# Altium footprint library PcbLib1.PcbLib: 15 footprints
Each footprint in its own frame and in the unit in brackets; x right, y up, seen from the top. Pads: shape width x height; smd on the part's side, far side on the other; paste and mask are expansions set on the pad; w line width, h text height; cw(c..) or ccw(c..) is an arc to the next point about the centre after c.
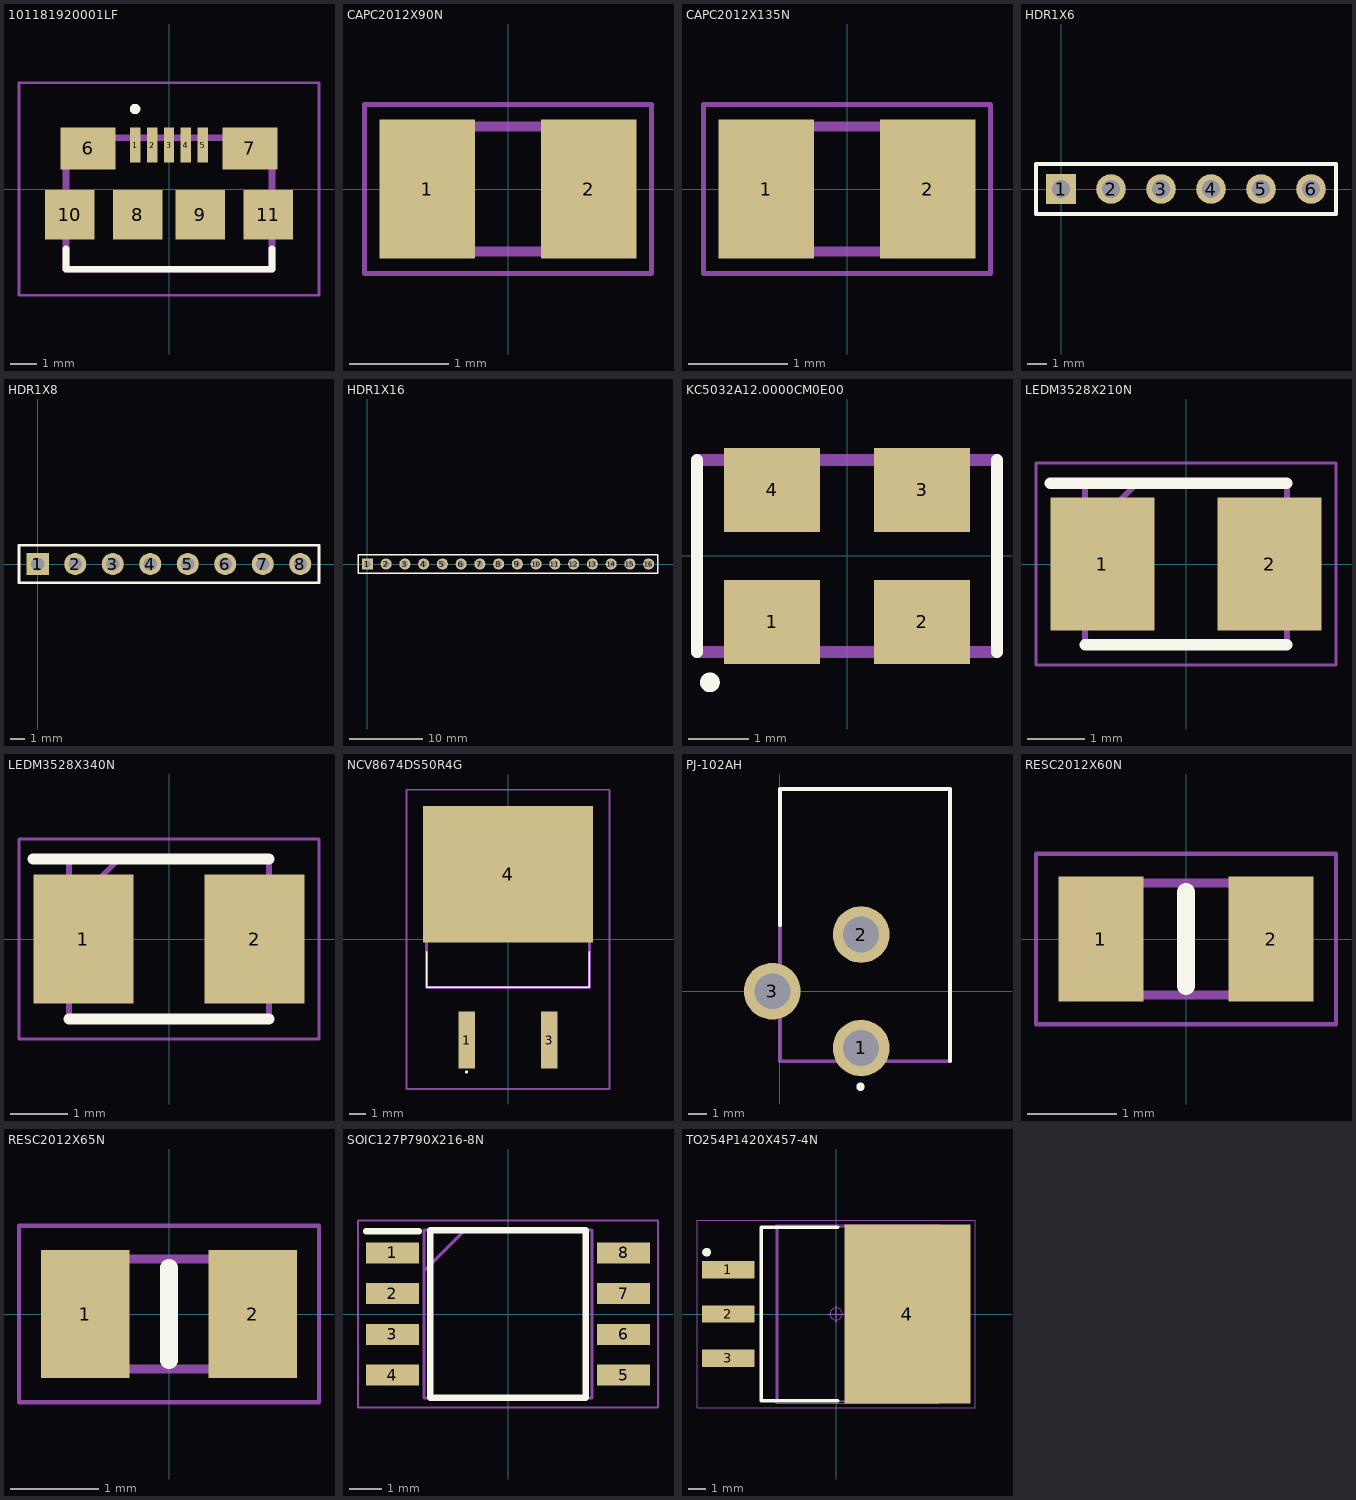
[diagram p0: the footprints below, top view; thin cyan lines are the x and y axes]

## 101181920001LF [mm]
pads (11):
  rect 0.4x1.35 smd: 1(-1.3,1.682) 2(-0.65,1.682) 3(0,1.682) 4(0.65,1.682) 5(1.3,1.682)
  rect 2.1x1.6 smd: 6(-3.1,1.557) 7(3.1,1.557)
  rect 1.9x1.9 smd: 8(-1.2,-0.993) 9(1.2,-0.993) 10(-3.8,-0.993) 11(3.8,-0.993)
Top Overlay:
  lines w0.2: -1.4,3.066 cw(c-1.3,3.066) -1.2,3.066 cw(c-1.3,3.066) -1.4,3.066
  lines w0.254: -3.95,-2.293 -3.95,-3.079 3.95,-3.079 3.95,-2.293
Mechanical 13:
  lines w0.254: -3.95,-3.079 -3.95,1.971 3.95,1.971 3.95,-3.079 -3.95,-3.079
Mechanical 15:
  lines w0.1: -5.75,-4.079 -5.75,4.079 5.75,4.079 5.75,-4.079 -5.75,-4.079
3D body "10118192-0001LF.stp": height 2.9, standoff 0, extent -4.56,-3.079 4.56,2.317

## CAPC2012X90N [mm]
pads (2):
  rect 0.96x1.39 smd: 1(-0.81,0) 2(0.81,0)
Mechanical 13:
  lines w0.1: -1,-0.625 1,-0.625 1,0.625 -1,0.625 -1,-0.625
Mechanical 15:
  lines w0.05: -1.44,-0.85 1.44,-0.85 1.44,0.85 -1.44,0.85 -1.44,-0.85
3D body "885012207045.stp": height 0.9, standoff 0, extent -1,-0.625 1,0.625

## CAPC2012X135N [mm]
pads (2):
  rect 0.96x1.39 smd: 1(-0.81,0) 2(0.81,0)
Mechanical 13:
  lines w0.1: -1,-0.625 1,-0.625 1,0.625 -1,0.625 -1,-0.625
Mechanical 15:
  lines w0.05: -1.44,-0.85 1.44,-0.85 1.44,0.85 -1.44,0.85 -1.44,-0.85
3D body "885012207049.stp": height 1.35, standoff 0, extent -1,-0.625 1,0.625

## HDR1X6 [mm] "Connector; Header; 6 Position"
pads (6):
  rect 1.5x1.5 hole 0.9: 1(0,0)
  round 1.5 hole 0.9: 2(2.54,0) 3(5.08,0) 4(7.62,0) 5(10.16,0) 6(12.7,0)
Top Overlay:
  lines w0.2: -1.27,-1.27 13.97,-1.27 13.97,1.27 -1.27,1.27 -1.27,-1.27

## HDR1X8 [mm] "Connector; Header; 8 Position"
pads (8):
  rect 1.5x1.5 hole 0.9: 1(0,0)
  round 1.5 hole 0.9: 2(2.54,0) 3(5.08,0) 4(7.62,0) 5(10.16,0) 6(12.7,0) 7(15.24,0) 8(17.78,0)
Top Overlay:
  lines w0.2: -1.27,-1.27 19.05,-1.27 19.05,1.27 -1.27,1.27 -1.27,-1.27

## HDR1X16 [mm] "Connector; Header; 16 Position"
pads (16):
  rect 1.5x1.5 hole 0.9: 1(0,0)
  round 1.5 hole 0.9: 2(2.54,0) 3(5.08,0) 4(7.62,0) 5(10.16,0) 6(12.7,0) 7(15.24,0) 8(17.78,0) 9(20.32,0) 10(22.86,0) 11(25.4,0) 12(27.94,0) 13(30.48,0) 14(33.02,0) 15(35.56,0) 16(38.1,0)
Top Overlay:
  lines w0.2: -1.27,-1.27 39.37,-1.27 39.37,1.27 0.635,1.27 -1.27,1.27 -1.27,-1.27

## KC5032A12.0000CM0E00 [mm]
pads (4):
  rect 1.6x1.4 smd: 1(-1.25,-1.1) 2(1.25,-1.1) 3(1.25,1.1) 4(-1.25,1.1)
Top Overlay:
  circle w0.2: c-2.284,-2.109 r0.064
  lines w0.2: -2.5,-1.6 -2.5,1.6 ; 2.5,-1.6 2.5,1.6
Mechanical 13:
  lines w0.2: -2.5,-1.6 -2.5,1.6 2.5,1.6 2.5,-1.6 -2.5,-1.6

## LEDM3528X210N [mm]
pads (2):
  rect 1.8x2.3 smd: 1(-1.45,0) 2(1.45,0)
Top Overlay:
  lines w0.2: -2.35,1.4 1.75,1.4 ; -1.75,-1.4 1.75,-1.4
Mechanical 13:
  lines w0.1: -1.75,0.5 -0.85,1.4 ; -1.75,-1.4 1.75,-1.4 1.75,1.4 -1.75,1.4 -1.75,-1.4
Mechanical 15:
  lines w0.05: -2.6,-1.75 2.6,-1.75 2.6,1.75 -2.6,1.75 -2.6,-1.75

## LEDM3528X340N [mm]
pads (2):
  rect 1.75x2.25 smd: 1(-1.5,0) 2(1.5,0)
Top Overlay:
  lines w0.2: -2.375,1.4 1.75,1.4 ; -1.75,-1.4 1.75,-1.4
Mechanical 13:
  lines w0.1: -1.75,0.525 -0.875,1.4 ; -1.75,-1.4 -1.75,1.4 1.75,1.4 1.75,-1.4 -1.75,-1.4
Mechanical 15:
  lines w0.05: -2.625,-1.75 -2.625,1.75 2.625,1.75 2.625,-1.75 -2.625,-1.75

## NCV8674DS50R4G [mm]
pads (3):
  rect 1.016x3.504 smd: 1(-2.54,-6.2) 3(2.54,-6.2)
  rect 10.49x8.38 smd: 4(0,4.013)
Top Overlay:
  lines w0.1: -5,-0.753 -5,-2.952 5,-2.952 5,-0.753 ; -2.6,-8.153 cw(c-2.55,-8.153) -2.5,-8.153 cw(c-2.55,-8.153) -2.6,-8.153
Mechanical 13:
  lines w0.2: -5.01,-2.952 5.01,-2.952 5.01,6.247 -5.01,6.247 -5.01,-2.952
Mechanical 15:
  lines w0.1: -6.245,-9.203 6.245,-9.203 6.245,9.203 -6.245,9.203 -6.245,-9.203

## PJ-102AH [mm]
pads (3):
  round 3 hole 1.9: 1(4.3,-3) 2(4.3,3) 3(-0.4,0)
Top Overlay:
  circle w0.2: c4.261,-5.051 r0.119
  lines w0.2: 0,3.5 0,10.7 9,10.7 9,-3.7
Mechanical 13:
  lines w0.2: 0,-3.7 9,-3.7 9,10.7 0,10.7 0,-3.7
3D body "PJ-102AH.stp": height 11.01, standoff -3.49, extent -0.509,-3.732 8.891,10.668

## RESC2012X60N [mm]
pads (2):
  rect 0.95x1.4 smd: 1(-0.95,0) 2(0.95,0)
Top Overlay:
  lines w0.2: 0,-0.525 0,0.525
Mechanical 13:
  lines w0.1: -1,-0.625 -1,0.625 1,0.625 1,-0.625 -1,-0.625
Mechanical 15:
  lines w0.05: -1.675,-0.95 -1.675,0.95 1.675,0.95 1.675,-0.95 -1.675,-0.95
3D body "RC0805FR-072KL.stp": height 0.6, standoff 0, extent -1,-0.625 1,0.625

## RESC2012X65N [mm]
pads (2):
  rect 1x1.45 smd: 1(-0.95,0) 2(0.95,0)
Top Overlay:
  lines w0.2: 0,-0.525 0,0.525
Mechanical 13:
  lines w0.1: -1,-0.625 -1,0.625 1,0.625 1,-0.625 -1,-0.625
Mechanical 15:
  lines w0.05: -1.7,-1 -1.7,1 1.7,1 1.7,-1 -1.7,-1
3D body "CRG0805J100R.stp": height 0.65, standoff 0, extent -1,-0.625 1,0.625

## SOIC127P790X216-8N [mm]
pads (8):
  rect 1.65x0.65 smd: 1(-3.6,1.905) 2(-3.6,0.635) 3(-3.6,-0.635) 4(-3.6,-1.905) 5(3.6,-1.905) 6(3.6,-0.635) 7(3.6,0.635) 8(3.6,1.905)
Top Overlay:
  lines w0.2: -4.425,2.58 -2.775,2.58 ; -2.425,-2.615 -2.425,2.615 2.425,2.615 2.425,-2.615 -2.425,-2.615
Mechanical 13:
  lines w0.1: -2.615,1.345 -1.345,2.615 ; -2.615,-2.615 -2.615,2.615 2.615,2.615 2.615,-2.615 -2.615,-2.615
Mechanical 15:
  lines w0.05: -4.675,-2.915 -4.675,2.915 4.675,2.915 4.675,-2.915 -4.675,-2.915
3D body "W25Q80DVSSIG.stp": height 2.16, standoff 0, extent -3.95,-2.615 3.95,2.615

## TO254P1420X457-4N [mm]
pads (4):
  rect 3x1 smd: 1(-6.2,2.54) 2(-6.2,0) 3(-6.2,-2.54)
  rect 7.25x10.3 smd: 4(4.1,0)
Top Overlay:
  circle w0.25: c-7.45,3.55 r0.125
  lines w0.2: 0.1,-5 -4.3,-5 -4.3,5 0.1,5
Mechanical 13:
  lines w0.1: 5.83,-5.01 6.248,-5.01 7.1,-4.067 7.1,4.067 6.248,5.01 5.83,5.01 ; -3.365,-5.01 5.829,-5.01 5.829,5.01 -3.365,5.01 -3.365,-5.01
Mechanical 15:
  circle w0.05: c0,0 r0.35
  lines w0.001: -3.441,-5.118 5.906,-5.118 5.906,5.118 -3.441,5.118 -3.441,-5.118
  lines w0.05: -0.5,0 0.5,0 ; 0,-0.5 0,0.5 ; -8,-5.4 8,-5.4 8,5.4 -8,5.4 -8,-5.4